# Altium schematic symbol library CP2102-GM.SchLib: 1 symbol
Pins are listed as number, name and electrical type; pins without a type are passive.

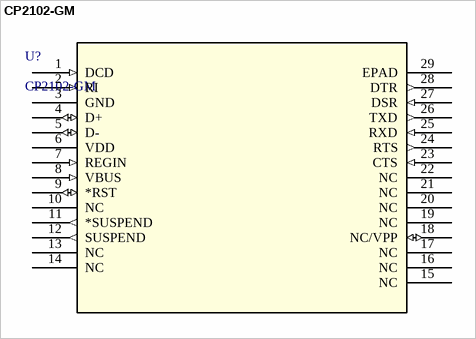
[diagram p0: symbol CP2102-GM]

## CP2102-GM
designator U?
Description; Manufacturer_Name: Silicon Labs; Copyright: Copyright (C) 2025 Ultra Librarian. All rights reserved.; Manufacturer_Part_Number: CP2102-GM; RefDes: RefDes; Type: Type
footprint QFN28_5X5_SIL
pins: 1 DCD (in), 2 RI (in), 3 GND (power), 4 D+ (io), 5 D- (io), 6 VDD (power), 7 REGIN (in), 8 VBUS (in), 9 *RST (io), 10 NC, 11 *SUSPEND (out), 12 SUSPEND (out), 13 NC, 14 NC, 15 NC, 16 NC, 17 NC, 18 NC/VPP (io), 19 NC, 20 NC, 21 NC, 22 NC, 23 CTS (in), 24 RTS (out), 25 RXD (in), 26 TXD (out), 27 DSR (in), 28 DTR (out), 29 EPAD